# EAGLE library part TSW-104-08-T-T-RA (library 4X3 Header Pin)
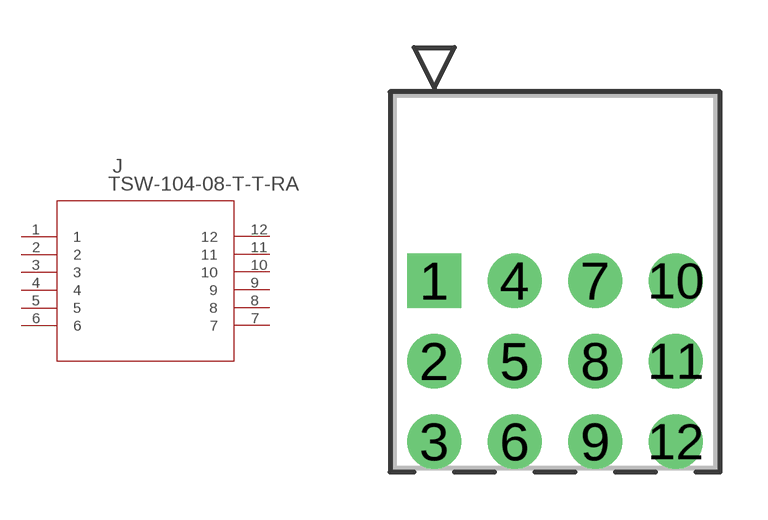
[diagram p0: symbol with the pads of TSW-104-08-T-T-RA_SAI; footprint TSW-104-08-T-T-RA_SAI]

Designator prefix J

## TSW-104-08-T-T-RA (BUILT_BY: EMA_UL_Team; MANUFACTURER_PART_NUMBER: TSW-104-08-T-T-RA; SOURCELIBRARY: Samtec_2016-10-07_8; VENDOR: Samtec Inc)  [TSW-104-08-T-T-RA_SAI]
1  1  pas
2  2  pas
3  3  pas
4  4  pas
5  5  pas
6  6  pas
7  7  pas
8  8  pas
9  9  pas
10  10  pas
11  11  pas
12  12  pas

## Footprint TSW-104-08-T-T-RA_SAI (pad centres in mm)
drill 1.143 pad 1.651 square: 1 0,0
drill 1.143 pad 1.651: 2 0,-2.54; 3 0,-5.08; 4 2.54,0; 5 2.54,-2.54; 6 2.54,-5.08; 7 5.08,0; 8 5.08,-2.54; 9 5.08,-5.08; 10 7.62,0; 11 7.62,-2.54; 12 7.62,-5.08